# Altium schematic symbol library KEYM8.SchLib: 4 symbols
Pins are listed as number, name and electrical type; pins without a type are passive.

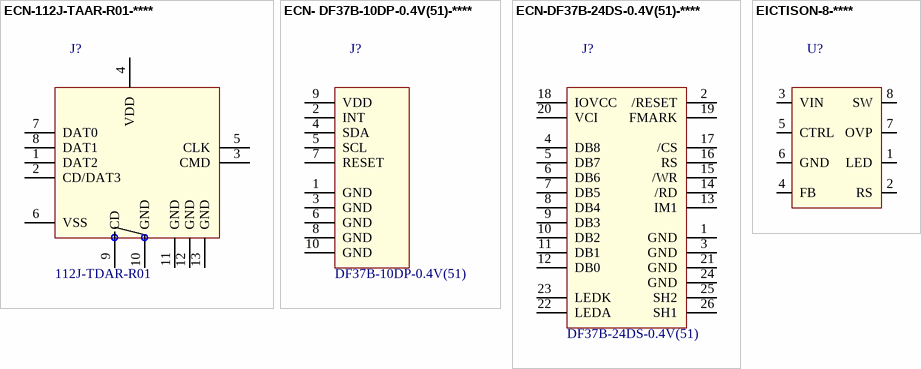
[diagram p0: symbols ECN-112J-TAAR-R01-**** to EICTISON-8-****]

## ECN-112J-TAAR-R01-****
designator J?, comment Manufacturer Part Number: 112J-TDAR-R01  (hidden comment: Micro SD Socket Push-Push Type)
Manufacturer: ATTEND; Internal Part Number: ECN-112J-TAAR-R01-****; 3rd Auxiliary Field: RoHS Compliant; Component Height (mm): 1.85mm; 2nd Auxiliary Field: SUS 304R-3/4H; Part Type: Micro SD Socket Push-Push Type; Vendor Name: ATTEND; Vendor Part Number: 112J-TDAR-R01; 4th Auxiliary Field: *; Temp Co: *; 1st Auxiliary Field: Push-Push Type
footprint ATTEND_112J-TAAR-R01 (Footprint not found)
pins: 1 DAT2, 2 CD/DAT3, 3 CMD, 4 VDD, 5 CLK, 6 VSS, 7 DAT0, 8 DAT1, 9 CD, 10 GND, 11 GND, 12 GND, 13 GND

## ECN- DF37B-10DP-0.4V(51)-****
designator J?, comment Manufacturer Part Number: DF37B-10DP-0.4V(51)  (hidden comment: CONN HDR 10POS SMD GOLD)
Manufacturer: Hirose Electric Co Ltd; Vendor Part Number: DF37B-10DP-0.4V(51)-ND; Internal Part Number: ECN- DF37B-10DP-0.4V(51)-****; Vendor Name: Digi-Key; 3rd Auxiliary Field: RoHS Compliant; Component Height (mm): 0.84mm; 2nd Auxiliary Field: 2 Rows; 1st Auxiliary Field: 10Pins; Part Type: CONN HDR 10POS SMD GOLD
footprint HIROSE_ DF37B-10DP-0.4V(51)
pins: 1 GND, 2 INT, 3 GND, 4 SDA, 5 SCL, 6 GND, 7 RESET, 8 GND, 9 VDD, 10 GND

## ECN-DF37B-24DS-0.4V(51)-****
designator J?, comment Manufacturer Part Number: DF37B-24DS-0.4V(51)  (hidden comment: CONN RCPT 24POS SMD GOLD)
Manufacturer: Hirose Electric Co Ltd; Vendor Part Number: DF37B-24DS-0.4V(51)-ND; Internal Part Number: ECN-DF37B-24DS-0.4V(51)-****; Vendor Name: Digi-Key; 3rd Auxiliary Field: RoHS Compliant; Component Height (mm): (0.97mm); 2nd Auxiliary Field: 2 Rows; Part Type: CONN RCPT 24POS SMD GOLD; 4th Auxiliary Field: *; Temp Co: *; 1st Auxiliary Field: 24POS
footprint HIROSE_DF37B-24DS-0.4V(51)_24
pins: 1 GND, 2 /RESET, 3 GND, 4 DB8, 5 DB7, 6 DB6, 7 DB5, 8 DB4, 9 DB3, 10 DB2, 11 DB1, 12 DB0, 13 IM1, 14 /RD, 15 /WR, 16 RS, 17 /CS, 18 IOVCC, 19 FMARK, 20 VCI, 21 GND, 22 LEDA, 23 LEDK, 24 GND, 25 SH2, 26 SH1

## EICTISON-8-****
designator U?, comment IC LED DRVR RGLTR DIM 60MA 8SON  (value not drawn)
Manufacturer: Texas Instruments; Vendor Part Number: 296-16675-1-ND; Internal Part Number: EICTISON-8-****; Manufacturer Part Number: TPS61043DRBR; Vendor Name: Digi-Key; 3rd Auxiliary Field: ROHS3 Compliant; Component Height (mm): 1mm; Temp Co: -40°C ~ 85°C (TA); 1st Auxiliary Field: 6V; Part Type: IC LED DRVR RGLTR DIM 60MA 8SON; 4th Auxiliary Field: *; 2nd Auxiliary Field: 60mA
footprint SON65P300X100_HS-9N (SON, 8-Leads, Body 3.00x3.00mm, Pitch 0.65mm, Thermal Pad 1.75x1.49mm, IPC Medium Density)
pins: 1 LED, 2 RS, 3 VIN, 4 FB, 5 CTRL, 6 GND, 7 OVP, 8 SW